# EAGLE library part RTC-4543SA (library mylib)
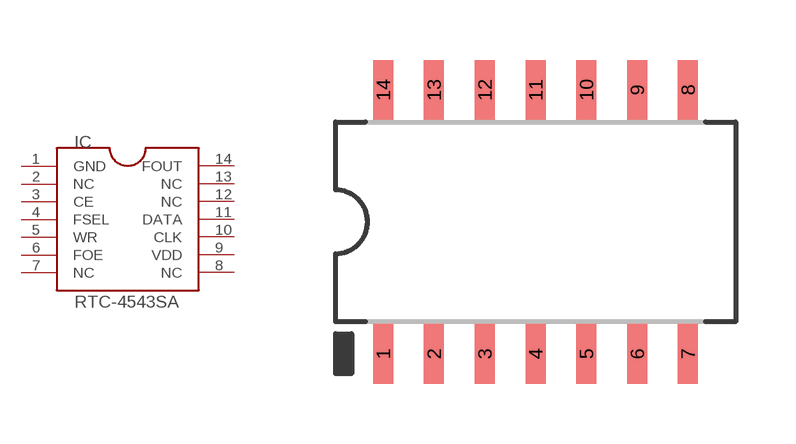
[diagram p131: symbol with the pads of SOT127P1010X500-14N; footprint SOT127P1010X500-14N]

Designator prefix IC

## RTC-4543SA  [SOT127P1010X500-14N]
1  GND
2  NC  nc
3  CE
4  FSEL
5  WR
6  FOE
7  NC  nc
8  NC  nc
9  VDD
10  CLK
11  DATA
12  NC  nc
13  NC  nc
14  FOUT

## Footprint SOT127P1010X500-14N (pad centres in mm)
smd 0.5 x 1.5: 1 -3.81,-3.302; 2 -2.54,-3.302; 3 -1.27,-3.302; 4 0,-3.302; 5 1.27,-3.302; 6 2.54,-3.302; 7 3.81,-3.302; 8 3.81,3.302; 9 2.54,3.302; 10 1.27,3.302; 11 0,3.302; 12 -1.27,3.302; 13 -2.54,3.302; 14 -3.81,3.302